# Altium schematic symbol library SM49-8M.SchLib: 1 symbol
Pins are listed as number, name and electrical type; pins without a type are passive.

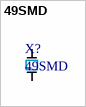
[diagram p0: symbol 49SMD]

## 49SMD
designator X?
footprint LC-HC-49SMD
pins: 0, 1